# EAGLE library part 796644-8 (library con-amp-termi-block)
TERMI-BLOCK, 5MM
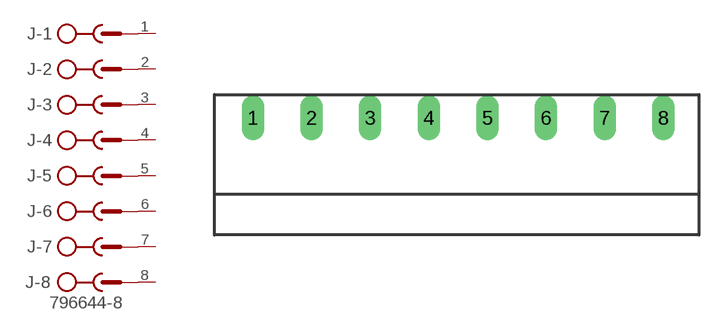
[diagram p2: symbol with the pads of 796644-8; footprint 796644-8]

Designator prefix J; gates -1=SK -2=SK -3=SK -4=SK -5=SK -6=SK -7=SK -8=SK+V

## 796644-8  [796644-8]
1  -1:SK  pas
2  -2:SK  pas
3  -3:SK  pas
4  -4:SK  pas
5  -5:SK  pas
6  -6:SK  pas
7  -7:SK  pas
8  -8:SK  pas

## Footprint 796644-8 (pad centres in mm)
Connector Right Angle pitch 5 mm
drill 1.27 pad 1.93 long: 1 -17.5,0; 2 -12.5,0; 3 -7.5,0; 4 -2.5,0; 5 2.5,0; 6 7.5,0; 7 12.5,0; 8 17.5,0